# Altium footprint library RAD_12.5mmx25mm.PcbLib: 1 footprints
Each footprint in its own frame and in the unit in brackets; x right, y up, seen from the top. Pads: shape width x height; smd on the part's side, far side on the other; paste and mask are expansions set on the pad; w line width, h text height; cw(c..) or ccw(c..) is an arc to the next point about the centre after c.
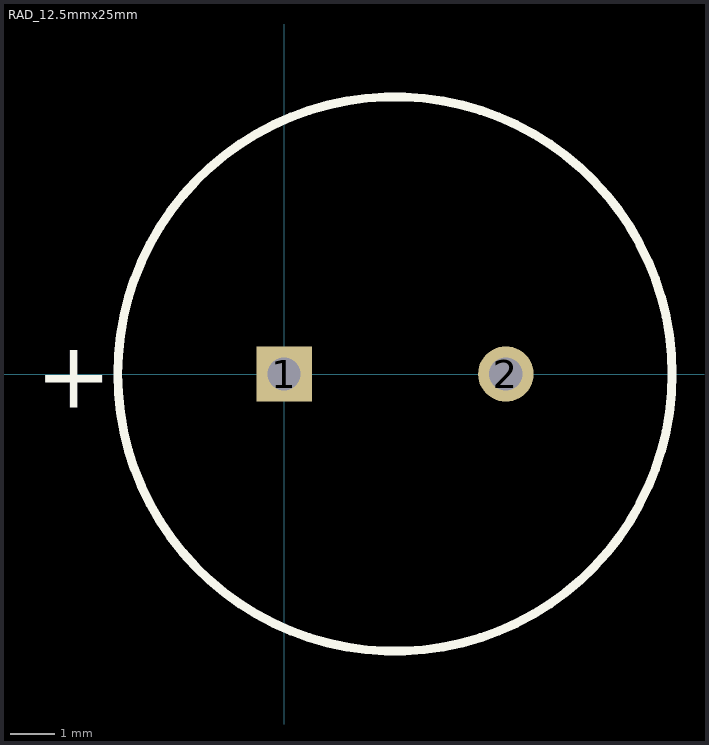
[diagram p0: the footprint, top view; thin cyan lines are the x and y axes]

## RAD_12.5mmx25mm [mm]
height 11.5
pads (2):
  rect 1.25x1.25 hole 0.75: 1(0,0)
  round 1.25 hole 0.75: 2(5,0)
TopOverlay:
  circle w0.2: c2.5,0 r6.25
  text "+" at -5.596,-0.765 h1.5
3D body: height 12.5, standoff 0, extent -3.75,-6.25 8.701,6.225